# Altium footprint library DiodeSS32.PcbLib: 1 footprints
Each footprint in its own frame and in the unit in brackets; x right, y up, seen from the top. Pads: shape width x height; smd on the part's side, far side on the other; paste and mask are expansions set on the pad; w line width, h text height; cw(c..) or ccw(c..) is an arc to the next point about the centre after c.
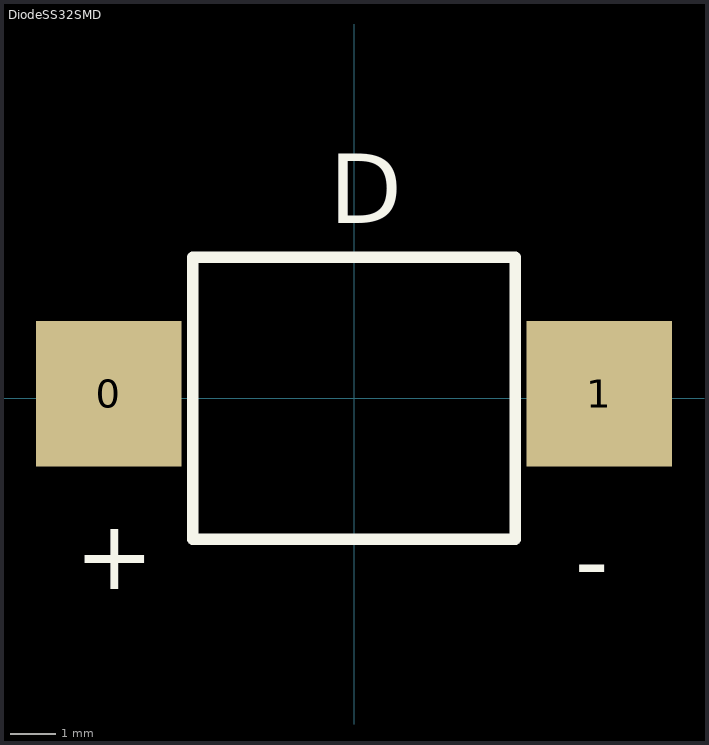
[diagram p0: the footprint, top view; thin cyan lines are the x and y axes]

## DiodeSS32SMD [mm]
pads (2):
  rect 3.2x3.2 smd: 0(-5.4,0.1) 1(5.4,0.1)
Top Overlay:
  lines w0.254: -3.55,-3.1 -3.55,3.1 3.55,3.1 3.55,-3.1 -3.55,-3.1
  text "D" at -0.546,3.854 h1.52
  text "+" at -6.146,-4.2 h1.52
  text "-" at 4.854,-4.308 h1.52